# Altium footprint library CeBOT.PcbLib: 20 footprints (part 1 of 2)
Each footprint in its own frame and in the unit in brackets; x right, y up, seen from the top. Pads: shape width x height; smd on the part's side, far side on the other; paste and mask are expansions set on the pad; w line width, h text height; cw(c..) or ccw(c..) is an arc to the next point about the centre after c.
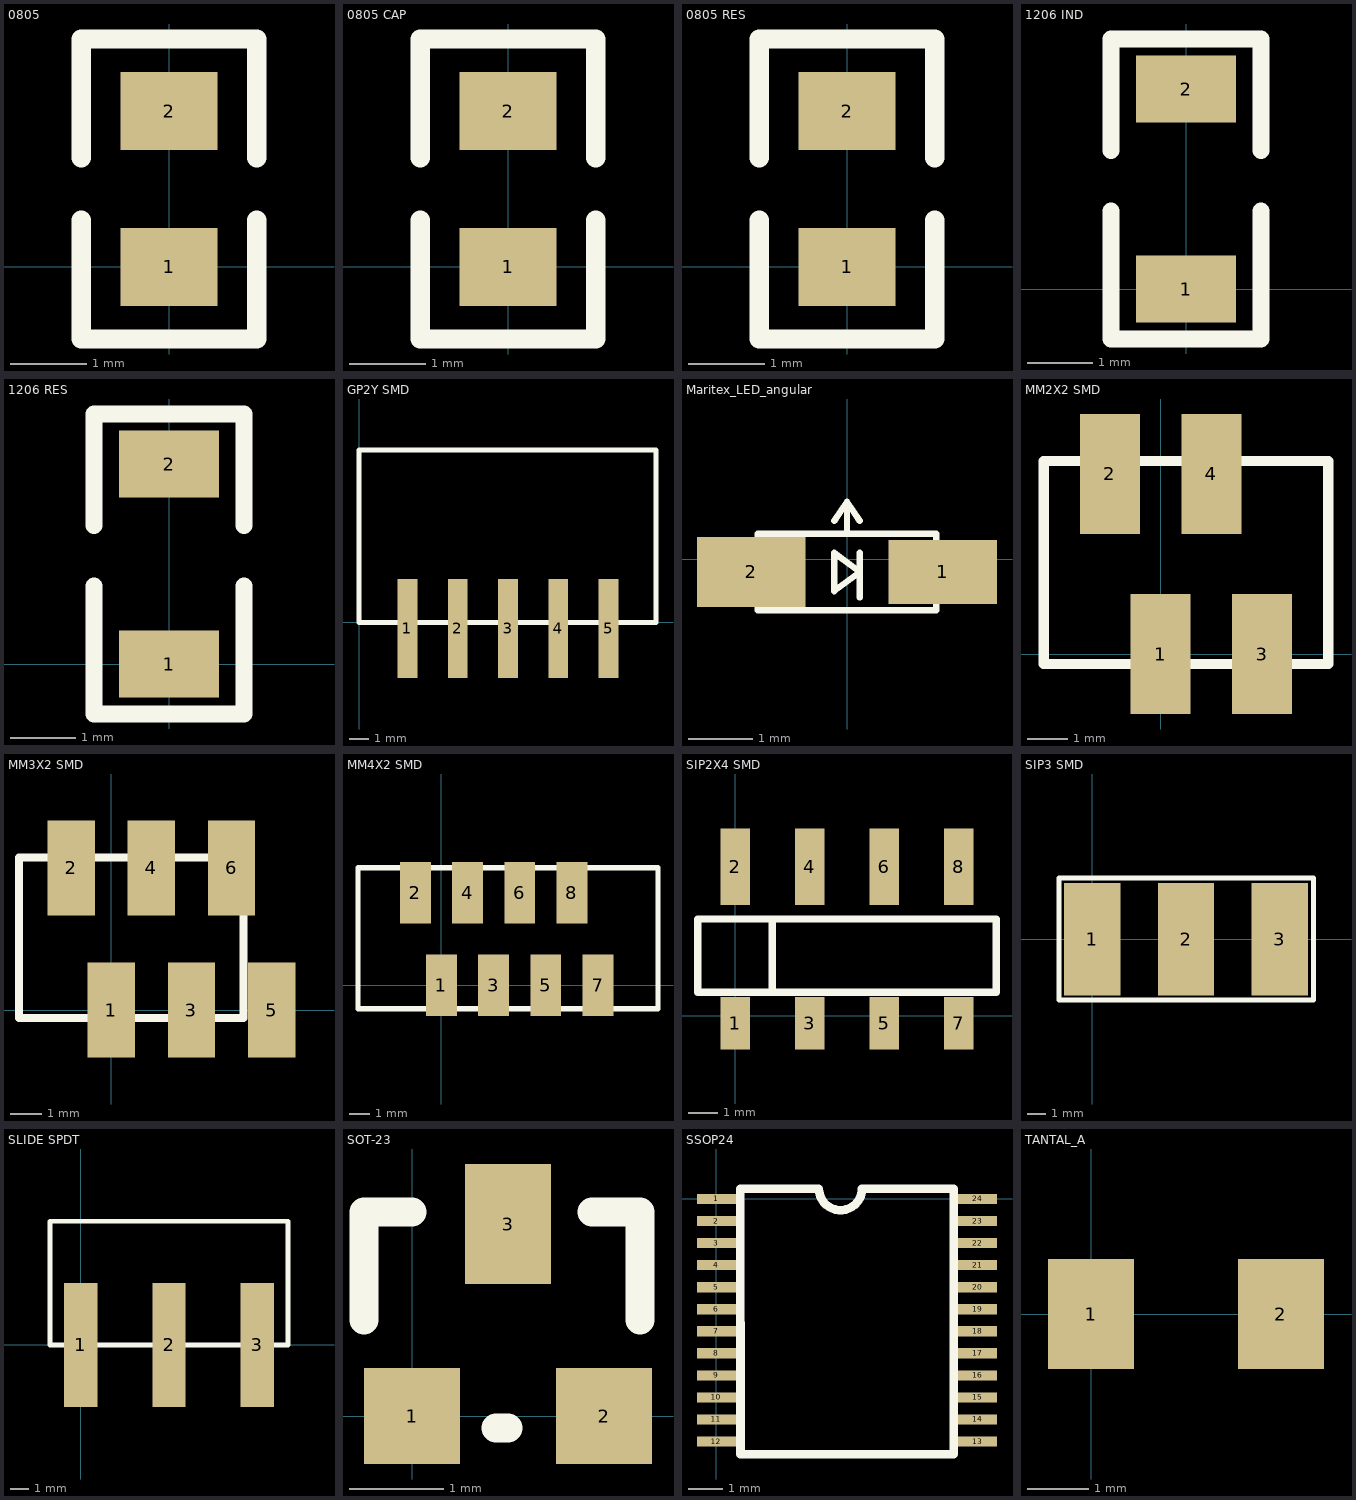
[diagram p0: the footprints below, top view; thin cyan lines are the x and y axes]

## 0805 [mil]
pads (2):
  rect 50x40 smd: 1(0,0) 2(0,80)
Top Overlay:
  lines w10: -45,24 -45,-37 45,-37 45,24 ; -45,56 -45,117 45,117 45,56

## 0805 CAP [mil]
pads (2):
  rect 50x40 smd: 1(0,0) 2(0,80)
Top Overlay:
  lines w10: -45,24 -45,-37 45,-37 45,24 ; -45,56 -45,117 45,117 45,56
3D body: height 30.79, standoff 0, extent -24.61,0 24.6,78.74

## 0805 RES [mil]
pads (2):
  rect 50x40 smd: 1(0,0) 2(0,80)
Top Overlay:
  lines w10: -45,24 -45,-37 45,-37 45,24 ; -45,56 -45,117 45,117 45,56
3D body: height 30.79, standoff 0, extent -24.6,0.01 24.61,78.74

## 1206 IND [mil]
pads (2):
  rect 60x40 smd: 1(0,0) 2(0,120)
Top Overlay:
  lines w10: -45,47 -45,-30 45,-30 45,47 ; -45,83 -45,150 45,150 45,83
3D body: height 59.45, standoff -0.39, extent -42.52,-10.08 42.52,130.08

## 1206 RES [mil]
pads (2):
  rect 60x40 smd: 1(0,0) 2(0,120)
Top Overlay:
  lines w10: -45,47 -45,-30 45,-30 45,47 ; -45,83 -45,150 45,150 45,83
3D body: height 39.45, standoff 0, extent -31.49,-3.93 31.5,122.05

## GP2Y SMD [mm]
pads (5):
  rect 1x5 smd: 1(2.438,-0.3) 2(4.978,-0.3) 3(7.518,-0.3) 4(10.058,-0.3) 5(12.598,-0.3)
Top Overlay:
  lines w0.254: 0,0 0,8.7 15,8.7 15,0 0,0

## Maritex_LED_angular [mm]
pads (2):
  rect 1.7x1 smd: 1(1.5,-0.2)
  rect 1.7x1.1 smd: 2(-1.5,-0.2)
Top Overlay:
  lines w0.1: 0,0.4 0,0.9 ; 0.2,0.1 0.2,-0.6 0.2,-0.2 ; 0.2,0.6 0,0.9 ; 0,0.9 -0.2,0.6 0,0.9 ; 0.2,-0.2 -0.2,-0.5 -0.2,0.1 0.2,-0.2 ; -1.4,-0.8 -1.4,0.4 1.4,0.4 1.4,-0.8 -1.4,-0.8
3D body: height 1, standoff 0, extent -1.4,-0.8 1.4,0.4

## MM2X2 SMD [mm]
pads (4):
  rect 1.5x3 smd: 1(0,0) 2(-1.27,4.5) 3(2.54,0) 4(1.27,4.5)
Top Overlay:
  lines w0.254: -2.921,-0.254 4.191,-0.254 4.191,4.826 -2.921,4.826 -2.921,-0.254
3D body: height 5.25, standoff 0, extent -2.95,-1.25 4.15,5.65

## MM3X2 SMD [mm]
pads (6):
  rect 1.5x3 smd: 1(0,0) 2(-1.27,4.5) 3(2.54,0) 4(1.27,4.5) 5(5.08,0) 6(3.81,4.5)
Top Overlay:
  lines w0.254: -2.921,-0.254 -2.921,4.826 4.191,4.826 4.191,-0.254 -2.921,-0.254
3D body: height 5.2, standoff -0.05, extent -2.87,-1.164 6.68,5.736

## MM4X2 SMD [mm]
pads (8):
  rect 1.5x3 smd: 1(0,0) 2(-1.27,4.5) 3(2.54,0) 4(1.27,4.5) 5(5.08,0) 6(3.81,4.5) 7(7.62,0) 8(6.35,4.5)
Top Overlay:
  lines w0.254: -4.064,-1.143 10.541,-1.143 10.541,5.715 -4.064,5.715 -4.064,-1.143
3D body: height 5.4, standoff 0.06, extent -4.089,-1.174 10.541,5.746

## SIP2X4 SMD [mm]
pads (8):
  rect 1x1.778 smd: 1(0,-0.254) 3(2.54,-0.254) 5(5.08,-0.254) 7(7.62,-0.254)
  rect 1x2.6 smd: 2(0,5.08) 4(2.54,5.08) 6(5.08,5.08) 8(7.62,5.08)
Top Overlay:
  lines w0.254: 1.27,0.8 1.27,3.3 ; -1.27,0.8 8.89,0.8 8.89,3.3 -1.27,3.3 -1.27,0.8
3D body: height 9.75, standoff 0.01, extent -1.27,-1.718 8.89,5.782

## SIP3 SMD [mil]
pads (3):
  rect 120x240 smd: 1(0,0) 2(200,0) 3(400,0)
Top Overlay:
  lines w10: -71,-129 472,-129 472,131 -71,131 -71,-129

## SLIDE SPDT [mil]
pads (3):
  rect 70x260 smd: 1(0,0) 2(185,0) 3(370,0)
Top Overlay:
  lines w10: -65,0 -65,260 435,260 435,0 -65,0
3D body: height 492.13, standoff -15.75, extent -68.81,-105.14 443,253.13

## SOT-23 [mil]
pads (3):
  rect 40x40 smd: 1(0,0) 2(80,0)
  rect 36x50 smd: 3(40,80)
Top Overlay:
  lines w12: -20,40 -20,85 0,85 ; 35,-5 40,-5 ; 75,85 95,85 95,40
3D body: height 42.52, standoff 0, extent -19.05,-12.97 99.06,90.97

## SSOP24 [mm]
pads (24):
  rect 1.143x0.3 smd: 1(0,0) 2(0,-0.65) 3(0,-1.3) 4(0,-1.95) 5(0,-2.6) 6(0,-3.25) 7(0,-3.9) 8(0,-4.55) 9(0,-5.2) 10(0,-5.85) 11(0,-6.5) 12(0,-7.15) 13(7.7,-7.15) 14(7.7,-6.5) 15(7.7,-5.85) 16(7.7,-5.2) 17(7.7,-4.55) 18(7.7,-3.9) 19(7.7,-3.25) 20(7.7,-2.6) 21(7.7,-1.95) 22(7.7,-1.3) 23(7.7,-0.65) 24(7.7,0)
Top Overlay:
  lines w0.254: 6.985,0.305 4.293,0.305 cw(c3.658,0.305) 3.023,0.305 0.7,0.3 0.711,-7.518 6.995,-7.522 ; 7,-7.522 7,0.3
3D body: height 1.88, standoff -0.11, extent -0.102,-7.894 7.798,0.736

## TANTAL_A [mm]
pads (2):
  rect 1.4x1.8 smd: 1(0,0) 2(3.1,0)
3D body: height 2.05, standoff 0.4, extent -0.12,-0.787 3.27,0.813